# Altium footprint library PERfECT-PRO.PcbLib: 22 footprints (part 1 of 2)
Each footprint in its own frame and in the unit in brackets; x right, y up, seen from the top. Pads: shape width x height; smd on the part's side, far side on the other; paste and mask are expansions set on the pad; w line width, h text height; cw(c..) or ccw(c..) is an arc to the next point about the centre after c.
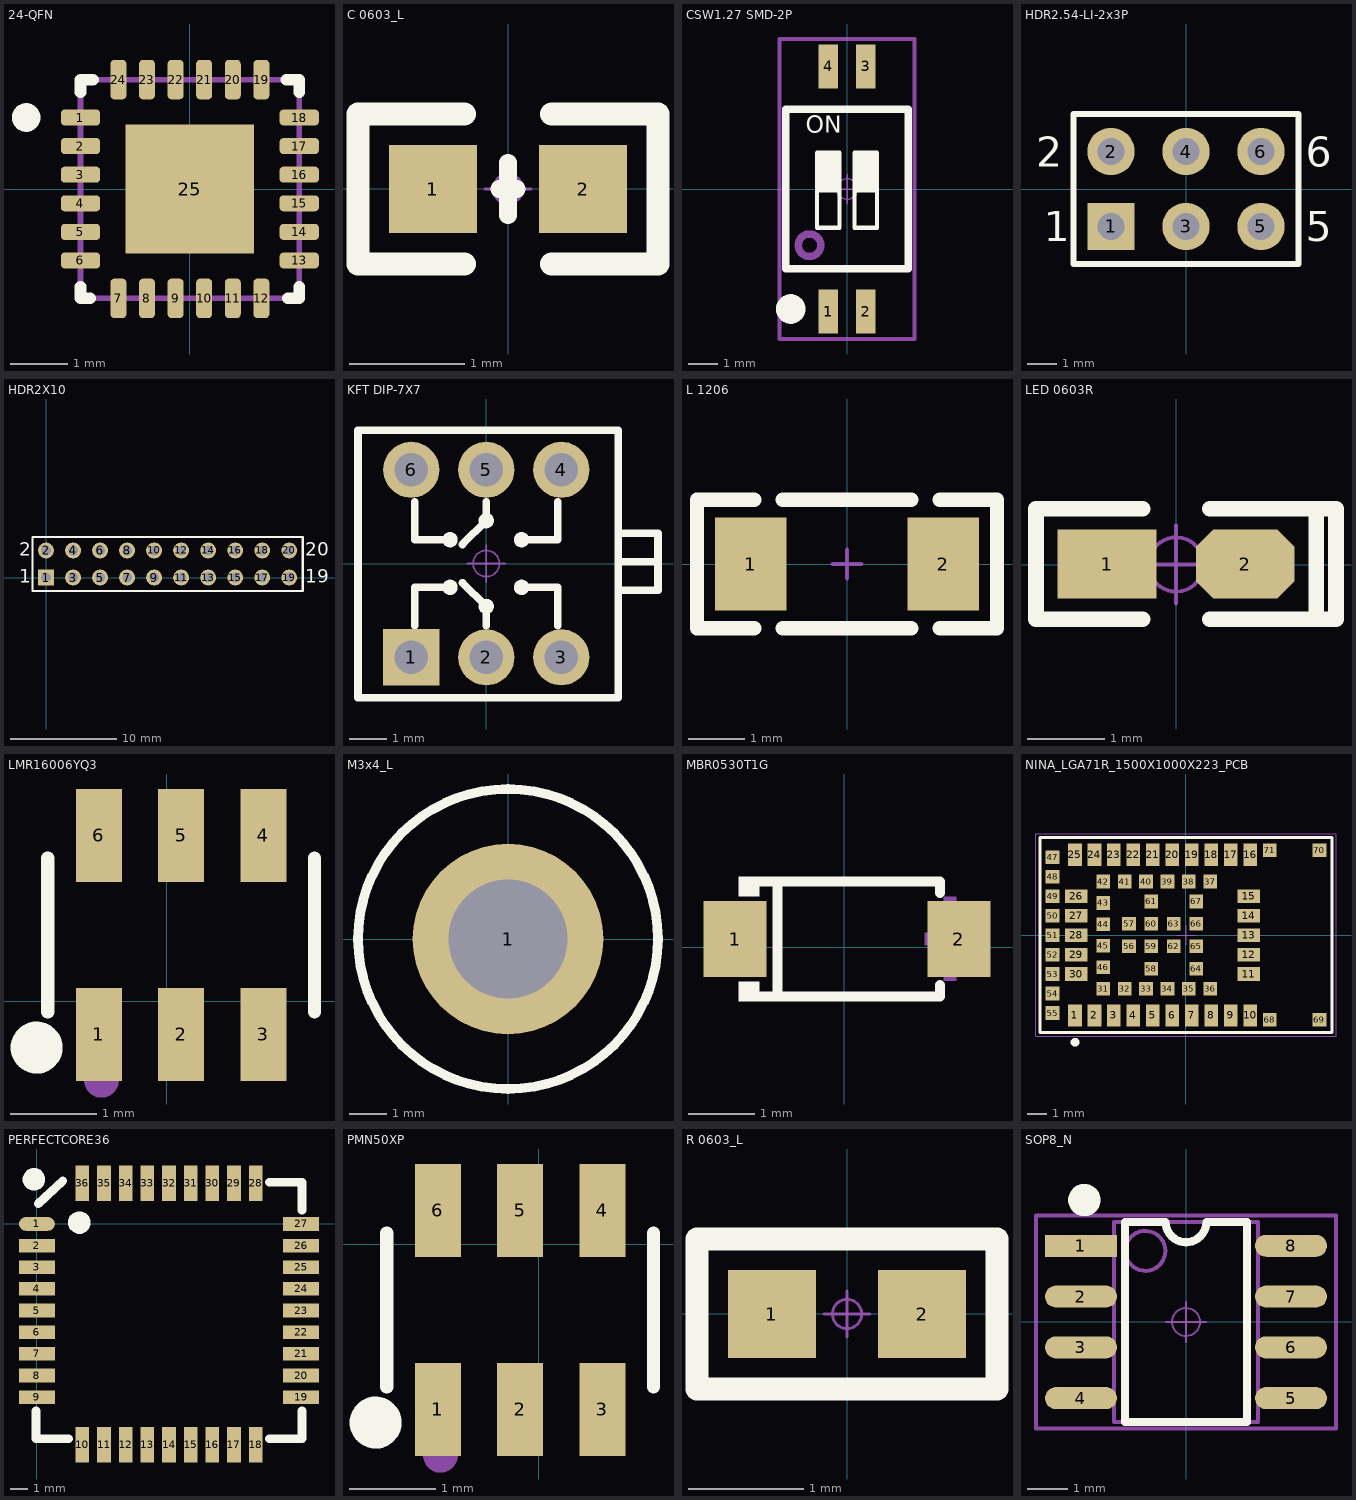
[diagram p0: the footprints below, top view; thin cyan lines are the x and y axes]

## 24-QFN [mm]
pads (25):
  rrect50% 0.69x0.28 smd: 1(-1.912,1.25) 2(-1.912,0.75) 3(-1.912,0.25) 4(-1.912,-0.25) 5(-1.912,-0.75) 6(-1.912,-1.25) 13(1.913,-1.25) 14(1.913,-0.75) 15(1.913,-0.25) 16(1.913,0.25) 17(1.913,0.75) 18(1.913,1.25)
  rrect50% 0.28x0.69 smd: 7(-1.25,-1.913) 8(-0.75,-1.913) 9(-0.25,-1.913) 10(0.25,-1.913) 11(0.75,-1.913) 12(1.25,-1.913) 19(1.25,1.913) 20(0.75,1.913) 21(0.25,1.913) 22(-0.25,1.913) 23(-0.75,1.913) 24(-1.25,1.913)
  rect 2.25x2.25 smd paste-1.3: 25(0,0)
Top Overlay:
  circle w0.25: c-2.862,1.25 r0.125
  lines w0.203: -1.912,-1.709 -1.912,-1.913 -1.745,-1.913 ; -1.912,1.695 -1.912,1.913 -1.694,1.913 ; 1.684,1.913 1.913,1.913 1.913,1.695 ; 1.71,-1.913 1.913,-1.913 1.913,-1.709
Top Paste:
  rectangle: -0.965,-0.965 -0.152,-0.152
  rectangle: 0.153,-0.965 0.966,-0.152
  rectangle: -0.965,0.153 -0.152,0.965
  rectangle: 0.153,0.153 0.966,0.965
Mechanical 5:
  lines w0.1: -1.912,-1.913 -1.912,1.913 1.913,1.913 1.913,-1.913 -1.912,-1.913
  text ".Designator" at -0.262,-0.2 h0.51
3D body "VQFN-24.step": height 1.08, standoff 0, extent -2.05,-2.045 2.05,2.055

## C 0603_L [mil]
pads (2):
  rect 30x30 smd: 1(-25.59,0) 2(25.59,0)
Top Overlay:
  lines w6: -3,0 0,0 3,0 ; 0,-9 0,9
  lines w8: -15,-25.59 -51.18,-25.59 -51.18,25.59 -15,25.59 ; 15,-25.59 51.18,-25.59 51.18,25.59 15,25.59
Mechanical 15:
  circle w1: c0,0 r5
  lines w1: -7.87,0 7.87,0 ; 0,-7.87 0,7.87
3D body "C 0603.STEP": height 31.89, standoff -0.39, extent -31.5,-16.14 31.5,16.14

## CSW1.27 SMD-2P [mm]
pads (4):
  rect 0.65x1.5 smd: 1(-0.635,-4.15) 2(0.635,-4.15) 3(0.635,4.15) 4(-0.635,4.15)
Top Overlay:
  circle w0.5: c-1.905,-4.064 r0.25
  region: 1.016,1.225 0.254,1.225 0.254,-0.045 1.016,-0.045
  region: -0.254,1.225 -1.016,1.225 -1.016,-0.045 -0.254,-0.045
  lines w0.15: -1.016,-0.045 -0.254,-0.045 ; 0.254,-0.045 1.016,-0.045 ; -1.016,-1.315 -1.016,1.225 -0.254,1.225 -0.254,-1.315 -1.016,-1.315 ; 0.254,-1.315 0.254,1.225 1.016,1.225 1.016,-1.315 0.254,-1.315
  lines w0.254: -2.07,-2.7 2.07,-2.7 2.07,2.7 -2.07,2.7 -2.07,-2.7
  text "ON" at -1.397,1.696 h1
Mechanical 13:
  circle w0.254: c-1.27,-1.905 r0.381
  lines w0.15: -2.032,-2.7 -2.032,2.7 2.032,2.7 2.032,-2.7 -2.032,-2.7
Mechanical 15:
  circle w0.05: c0,0 r0.35
  lines w0.05: -0.5,0 0.5,0 ; 0,-0.5 0,0.5
  lines w0.15: -2.286,-5.08 -2.286,5.08 2.286,5.08 2.286,-5.08 2.159,-5.08 -2.286,-5.08
3D body "CSW1.27-SMD-2P.STEP": height 2.35, standoff 0, extent -2.07,-4.35 2.07,4.35

## HDR2.54-LI-2x3P [mm]
pads (6):
  rect 1.6x1.6 hole 0.9: 1(-2.54,-1.27)
  round 1.6 hole 0.9: 2(-2.54,1.27) 3(0,-1.27) 4(0,1.27) 5(2.54,-1.27) 6(2.54,1.27)
Top Overlay:
  lines w0.2: -1.058,-2.54 3.81,-2.54 ; 3.81,-2.54 -3.81,-2.54 -3.81,2.54 3.81,2.54 3.81,-2.54
  text "1" at -4.826,-1.778 h1.02
  text "2" at -5.08,0.762 h1.02
  text "5" at 4.064,-1.778 h1.02
  text "6" at 4.064,0.762 h1.02
3D body "HDR2.54-1x2P.STEP": height 8.5, standoff -3, extent -1.27,-2.54 1.27,2.54
3D body "HDR2.54-1x2P.STEP": height 8.5, standoff -3, extent -3.81,-2.54 -1.27,2.54
3D body "HDR2.54-1x2P.STEP": height 8.5, standoff -3, extent 1.27,-2.54 3.81,2.54

## HDR2X10 [mm]
pads (20):
  rect 1.5x1.5 hole 0.9: 1(0,0)
  round 1.5 hole 0.9: 2(0,2.54) 3(2.54,0) 4(2.54,2.54) 5(5.08,0) 6(5.08,2.54) 7(7.62,0) 8(7.62,2.54) 9(10.16,0) 10(10.16,2.54) 11(12.7,0) 12(12.7,2.54) 13(15.24,0) 14(15.24,2.54) 15(17.78,0) 16(17.78,2.54) 17(20.32,0) 18(20.32,2.54) 19(22.86,0) 20(22.86,2.54)
Top Overlay:
  lines w0.2: -1.27,-1.27 -1.27,3.81 0.635,3.81 24.13,3.81 24.13,-1.27 0.635,-1.27 -1.27,-1.27
  text "2" at -2.54,2.032 h1.27
  text "1" at -2.54,-0.508 h1.27
  text "19" at 24.384,-0.508 h1.27
  text "20" at 24.384,2.032 h1.27

## KFT DIP-7X7 [mm]
pads (6):
  rect 1.5x1.5 hole 0.9: 1(-2,-2.5)
  round 1.5 hole 0.9: 2(0,-2.5) 3(2,-2.5) 4(2,2.5) 5(0,2.5) 6(-2,2.5)
Top Overlay:
  circle w0.254: c0.94,-0.635 r0.076
  circle w0.254: c-0.965,-0.635 r0.076
  circle w0.254: c0,-1.143 r0.076
  circle w0.254: c0,1.143 r0.076
  circle w0.254: c-0.965,0.635 r0.076
  circle w0.254: c0.94,0.635 r0.076
  lines w0.203: -1.905,-1.651 -1.905,-0.635 -0.889,-0.635 ; -1.905,1.651 -1.905,0.635 -0.889,0.635 ; -0.635,-0.508 0,-1.143 0,-1.651 ; -0.635,0.508 0,1.143 0,1.651 ; 1.016,-0.635 1.905,-0.635 1.905,-1.651 ; 1.016,0.635 1.905,0.635 1.905,1.651 ; 3.514,0.05 4.579,0.05 ; 3.563,-0.712 4.579,-0.712 4.579,0.812 3.563,0.812 ; -3.42,-3.581 3.514,-3.581 3.514,2.54 3.514,3.556 -3.42,3.556 -3.42,-3.581
Mechanical 15:
  circle w0.05: c0,0 r0.35
  lines w0.05: -0.5,0 0.5,0 ; 0,-0.5 0,0.5
3D body "SLSW 7x7.STEP": height 11.2, standoff -3.2, extent -3.5,-3.5 3.5,3.5

## L 1206 [mil]
pads (2):
  rect 50x65 smd: 1(-67.5,0) 2(67.5,0)
Top Overlay:
  lines w10: -65,-45 -105,-45 -105,45 -65,45 ; -45,-45 45,-45 ; -45,45 45,45 ; 65,-45 105,-45 105,45 65,45
Mechanical 15:
  lines w3: -10,0 10,0 ; 0,-10 0,10
3D body "1206.STEP": height 35.43, standoff -0.19, extent -62.99,-31.5 62.99,31.5

## LED 0603R [mil]
pads (2):
  rect 50x35 smd: 1(-35,0.26)
  oct 50x35 smd: 2(35,0.26)
Top Overlay:
  lines w8: -17,-27.74 -71,-27.74 -71,-25.74 -71,28.26 -70,28.26 -17,28.26 ; 17,-27.74 70,-27.74 ; 17,28.26 71,28.26 81,28.26 81,-27.74 71,-27.74 71,26.26
Mechanical 15:
  circle w1.97: c0,0 r13.78
  lines w1.97: -19.68,0 19.68,0 ; 0,-19.68 0,19.68
3D body "LED 0603-R.STEP": height 18.36, standoff -0.16, extent -31.5,-15.79 31.5,15.79
3D body "LED 0603玻璃罩.": height 0, standoff 0, extent 0,0 0,0

## LMR16006YQ3 [mm]
pads (6):
  rect 0.532x1.072 smd: 1(-0.783,-0.385) 2(0.167,-0.385) 3(1.117,-0.385) 4(1.117,1.913) 5(0.167,1.913) 6(-0.783,1.913)
Top Overlay:
  circle w0.3: c-1.501,-0.537 r0.15
  lines w0.152: -1.372,-0.125 -1.372,1.653 ; 1.707,-0.125 1.707,1.653
Mechanical 15:
  circle w0.2: c-0.753,-0.916 r0.1

## M3x4_L [mm]
pads (1):
  round 5.08 hole 3.175: 1(0,0)
Top Overlay:
  circle w0.254: c0,0 r4
3D body "M3x4.STEP": height 4.05, standoff 0.05, extent -2.698,-2.35 2.698,2.35

## MBR0530T1G [mm]
pads (2):
  rect 0.95x1.15 smd: 1(-1.651,0.127) 2(1.734,0.127)
Top Overlay:
  region: -1.288,-0.815 -1.288,-0.52 -1.593,-0.52 -1.593,-0.815
  region: -1.288,1.069 -1.288,0.774 -1.593,0.774 -1.593,1.069
  lines w0.152: -1.365,-0.739 1.448,-0.739 1.448,-0.571 ; -1.365,0.993 1.448,0.993 1.448,0.825 ; -1.008,-0.739 -1.008,0.993
Mechanical 15:
  region: 1.693,0.762 1.693,-0.502 1.503,-0.502 1.503,0.762
  region: 1.977,0.225 1.977,0.035 1.218,0.035 1.218,0.225
  region: -1.989,0.222 -1.989,0.032 -1.23,0.032 -1.23,0.222

## NINA_LGA71R_1500X1000X223_PCB [mm]
pads (71):
  rect 0.7x1.15 smd paste+0 mask+0.05: 1(-5.7,-4.125) 2(-4.7,-4.125) 3(-3.7,-4.125) 4(-2.7,-4.125) 5(-1.7,-4.125) 6(-0.7,-4.125) 7(0.3,-4.125) 8(1.3,-4.125) 9(2.3,-4.125) 10(3.3,-4.125) 16(3.3,4.125) 17(2.3,4.125) 18(1.3,4.125) 19(0.3,4.125) 20(-0.7,4.125) 21(-1.7,4.125) 22(-2.7,4.125) 23(-3.7,4.125) 24(-4.7,4.125) 25(-5.7,4.125)
  rect 1.15x0.7 smd paste+0 mask+0.05: 11(3.225,-2) 12(3.225,-1) 13(3.225,0) 14(3.225,1) 15(3.225,2) 26(-5.625,2) 27(-5.625,1) 28(-5.625,0) 29(-5.625,-1) 30(-5.625,-2)
  rect 0.7x0.7 smd paste+0 mask+0.05: 31(-4.25,-2.75) 32(-3.15,-2.75) 33(-2.05,-2.75) 34(-0.95,-2.75) 35(0.15,-2.75) 36(1.25,-2.75) 37(1.25,2.75) 38(0.15,2.75) 39(-0.95,2.75) 40(-2.05,2.75) 41(-3.15,2.75) 42(-4.25,2.75) 43(-4.25,1.65) 44(-4.25,0.55) 45(-4.25,-0.55) 46(-4.25,-1.65) 47(-6.85,4) 48(-6.85,3) 49(-6.85,2) 50(-6.85,1) 51(-6.85,0) 52(-6.85,-1) 53(-6.85,-2) 54(-6.85,-3) 55(-6.85,-4) 56(-2.925,-0.575) 57(-2.925,0.575) 58(-1.775,-1.725) 59(-1.775,-0.575) 60(-1.775,0.575) 61(-1.775,1.725) 62(-0.625,-0.575) 63(-0.625,0.575) 64(0.525,-1.725) 65(0.525,-0.575) 66(0.525,0.575) 67(0.525,1.725) 68(4.3,-4.35) 69(6.85,-4.35) 70(6.85,4.35) 71(4.3,4.35)
Top Overlay:
  circle w0.254: c-5.7,-5.5 r0.1
  lines w0.15: -7.5,-5 7.5,-5 7.5,5 -7.5,5 -7.5,-5
Mechanical 13:
  lines w0.1: -7.5,-5 7.5,-5 7.5,5 -7.5,5 -7.5,-5
Mechanical 15:
  lines w0.05: -0.5,0 0.5,0 ; 0,-0.5 0,0.5 ; -7.7,-5.2 7.7,-5.2 7.7,5.2 -7.7,5.2 -7.7,-5.2
Multi-Layer:
  pour cut-out: 4.4,4 7.5,4 7.5,-4 4.4,-4
3D body "NINA-B3x6_mechanical_model.stp": height 2.31, standoff 0.03, extent -7.5,-5 7.5,5

## PERFECTCORE36 [mm]
pads (36):
  oval 2.1x0.8 smd: 1(0,0)
  rect 2.1x0.8 smd: 2(0,-1.27) 3(0,-2.54) 4(0,-3.81) 5(0,-5.08) 6(0,-6.35) 7(0,-7.62) 8(0,-8.89) 9(0,-10.16) 19(15.494,-10.16) 20(15.494,-8.89) 21(15.494,-7.62) 22(15.494,-6.35) 23(15.494,-5.08) 24(15.494,-3.81) 25(15.494,-2.54) 26(15.494,-1.27) 27(15.494,0)
  rect 0.8x2.1 smd: 10(2.667,-12.954) 11(3.937,-12.954) 12(5.207,-12.954) 13(6.477,-12.954) 14(7.747,-12.954) 15(9.017,-12.954) 16(10.287,-12.954) 17(11.557,-12.954) 18(12.827,-12.954) 28(12.827,2.391) 29(11.557,2.391) 30(10.287,2.391) 31(9.017,2.391) 32(7.747,2.391) 33(6.477,2.391) 34(5.207,2.391) 35(3.937,2.391) 36(2.667,2.391)
Top Overlay:
  region: -0.825,2.617 -0.825,2.488 -0.726,2.25 -0.544,2.068 -0.306,1.969 -0.177,1.969 -0.048,1.969 0.19,2.068 0.372,2.25 0.47,2.488 0.47,2.617 0.47,2.746 0.372,2.984 0.19,3.166 -0.048,3.264 -0.177,3.264 -0.306,3.264 -0.544,3.166 -0.726,2.984 -0.825,2.746
  region: 1.842,0.077 1.842,-0.052 1.941,-0.29 2.123,-0.472 2.361,-0.571 2.49,-0.571 2.619,-0.571 2.857,-0.472 3.039,-0.29 3.137,-0.052 3.137,0.077 3.137,0.206 3.039,0.444 2.857,0.626 2.619,0.724 2.49,0.724 2.361,0.724 2.123,0.626 1.941,0.444 1.842,0.206
  lines w0.508: -0.05,-10.96 -0.05,-12.601 1.867,-12.601 ; 0.077,1.181 1.524,2.54 ; 13.627,-12.601 15.544,-12.601 15.544,-10.96 ; 13.627,2.441 15.544,2.441 15.544,0.8
3D body: height 0.51, standoff 0, extent 0.134,-12.677 15.134,2.323

## PMN50XP [mm]
pads (6):
  rect 0.532x1.072 smd: 1(-1.164,-1.909) 2(-0.214,-1.909) 3(0.736,-1.909) 4(0.736,0.389) 5(-0.214,0.389) 6(-1.164,0.389)
Top Overlay:
  circle w0.3: c-1.882,-2.061 r0.15
  lines w0.152: -1.753,-1.649 -1.753,0.129 ; 1.326,-1.649 1.326,0.129
Mechanical 15:
  circle w0.2: c-1.134,-2.44 r0.1

## R 0603_L [mil]
pads (2):
  rect 30x30 smd: 1(-25.59,0) 2(25.59,0)
Top Overlay:
  lines w8: -51.18,-25.59 -51.18,25.59 51.18,25.59 51.18,-25.59 -51.18,-25.59
Mechanical 15:
  circle w1: c0,0 r5
  lines w1: -7.87,0 7.87,0 ; 0,-7.87 0,7.87
3D body "R 0603.STEP": height 15.79, standoff -0.13, extent -31.49,-15.74 31.5,15.75

## SOP8_N [mm]
pads (8):
  rect 1.8x0.55 smd: 1(-2.625,1.905)
  oval 1.8x0.55 smd: 2(-2.625,0.635) 3(-2.625,-0.635) 4(-2.625,-1.905) 5(2.625,-1.905) 6(2.625,-0.635) 7(2.625,0.635) 8(2.625,1.905)
Top Overlay:
  circle w0.5: c-2.54,3.048 r0.155
  lines w0.2: -1.524,2.5 -1.524,-2.5 1.524,-2.5 1.524,2.5
  lines w0.203: -1.524,2.5 -0.508,2.5 ccw(c0,2.5) 0,1.992 ccw(c0,2.5) 0.508,2.5 1.524,2.5
Mechanical 13:
  circle w0.1: c-1.016,1.778 r0.5
  lines w0.1: -1.8,-2.5 1.8,-2.5 1.8,2.5 -1.8,2.5 -1.8,-2.5
Mechanical 15:
  circle w0.05: c0,0 r0.35
  lines w0.05: -0.5,0 0.5,0 ; 0,-0.5 0,0.5
  lines w0.1: -3.75,-2.667 -3.75,2.667 3.75,2.667 3.75,-2.667 -3.75,-2.667
3D body "SOP8.STEP": height 1.9, standoff 0, extent -3.003,-2.5 3.003,2.5